# Altium footprint library PcbLib2.PcbLib: 1 footprints
Each footprint in its own frame and in the unit in brackets; x right, y up, seen from the top. Pads: shape width x height; smd on the part's side, far side on the other; paste and mask are expansions set on the pad; w line width, h text height; cw(c..) or ccw(c..) is an arc to the next point about the centre after c.
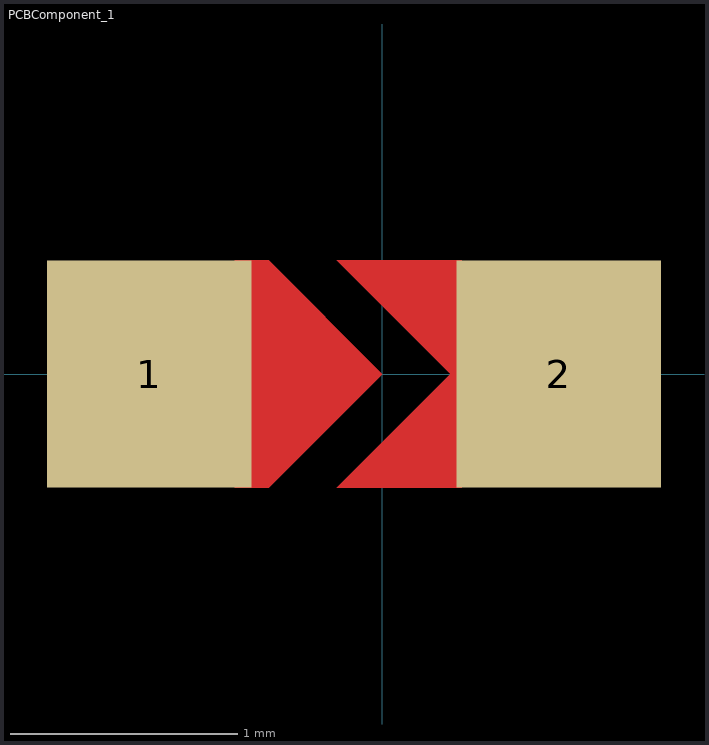
[diagram p0: the footprint, top view; thin cyan lines are the x and y axes]

## PCBComponent_1 [mm]
pads (2):
  rect 0.9x1 smd mask+0.05: 1(-1.025,0) 2(0.775,0)
Top Layer:
  region: 0.35,0.05 0.35,-0.5 -0.2,-0.5
  region: 0.35,0.5 -0.2,0.5 0.35,-0.05
  region: -0.5,0.5 0,0 -0.5,-0.5 -0.65,-0.5 -0.65,0.5